# EAGLE library part ZMOD4410 (library ZMOD4410)
Renesas ZMOD4410 - Digital Air Quality Sensor he ZMOD4410 Gas Sensor Module is designed for easy implementation to detect total volatile organic compounds (TVOC), estimate CO 2, and monitor indoor air quality (IAQ). SparkFun Products: SparkFun Air Quality Sensor - ZMOD4410 (Qwiic) <https://www.sparkfun.com/products/20778> SparkFun Air Quality Sensor - ZMOD4410 (Qwiic Micro) <https://www.sparkfun.com/products/20779>
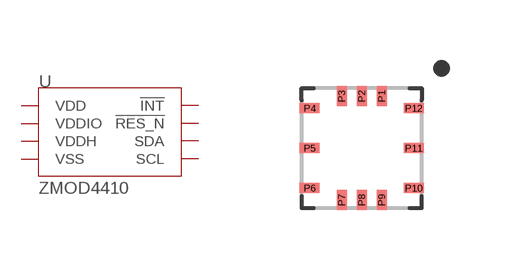
[diagram p0: symbol with the pads of LGA-12; footprint LGA-12]

Designator prefix U

## ZMOD4410 (PROD_ID: IC-17060)  [LGA-12]
P1  SCL
P2  SDA
P3  !INT!
P5  VDD  pwr
P6  VSS  pwr
P7  VSS  pwr
P9  VSS  pwr
P10  VDDH  pwr
P11  !RES_N!
P12  VDDIO  pwr

## Footprint LGA-12 (pad centres in mm)
LGA-12 Mechanical Specifications: Pad Size: .25mm x. 5mm Pin count: 12 Pin pitch: X: .5mm Y:1mm Package Size: 3mm x 3mm Datasheet referenced for footprint <https://www.renesas.com/us/en/document/dst/zmod4410-datasheet>
smd 0.25 x 0.5: P1 0.5,1.3; P2 0,1.3; P3 -0.5,1.3; P7 -0.5,-1.3; P8 0,-1.3; P9 0.5,-1.3
smd 0.5 x 0.25: P4 -1.3,1; P5 -1.3,0; P6 -1.3,-1; P10 1.3,-1; P11 1.3,0; P12 1.3,1